# EAGLE library part MA09-2 (library con-lstb)
PIN HEADER
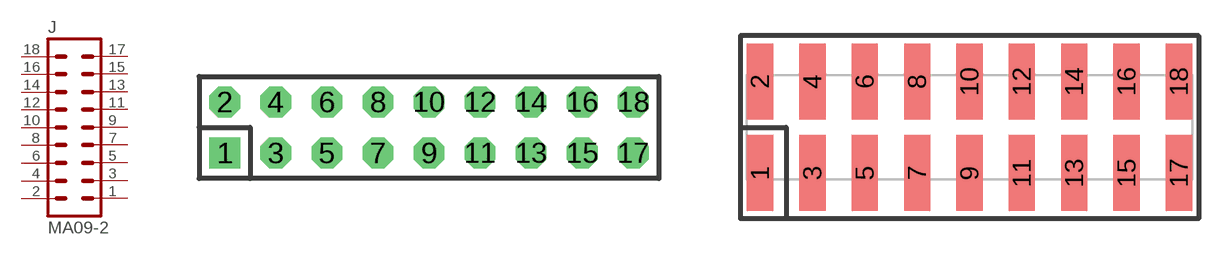
[diagram p29: symbol with the pads of MA09-2; footprints MA09-2, SMD-MA09-2]

Designator prefix J

## MA09-2  [MA09-2]
1  1  pas
2  2  pas
3  3  pas
4  4  pas
5  5  pas
6  6  pas
7  7  pas
8  8  pas
9  9  pas
10  10  pas
11  11  pas
12  12  pas
13  13  pas
14  14  pas
15  15  pas
16  16  pas
17  17  pas
18  18  pas

## MA09-2SMD  [SMD-MA09-2]
Pads as for MA09-2

## Footprint MA09-2 (pad centres in mm)
PIN HEADER
drill 1.016 square: 1 -10.16,-1.27
drill 1.016 octagon: 2 -10.16,1.27; 3 -7.62,-1.27; 4 -7.62,1.27; 5 -5.08,-1.27; 6 -5.08,1.27; 7 -2.54,-1.27; 8 -2.54,1.27; 9 0,-1.27; 10 0,1.27; 11 2.54,-1.27; 12 2.54,1.27; 13 5.08,-1.27; 14 5.08,1.27; 15 7.62,-1.27; 16 7.62,1.27; 17 10.16,-1.27; 18 10.16,1.27

## Footprint SMD-MA09-2 (pad centres in mm)
SMD Dual Row, Vertical - 0.1" Sullins, G XCXXDABN-M30 Series
smd 1.27 x 3.68: 1 -10.16,-2.223; 2 -10.16,2.223; 3 -7.62,-2.223; 4 -7.62,2.223; 5 -5.08,-2.223; 6 -5.08,2.223; 7 -2.54,-2.223; 8 -2.54,2.223; 9 0,-2.223; 10 0,2.223; 11 2.54,-2.223; 12 2.54,2.223; 13 5.08,-2.223; 14 5.08,2.223; 15 7.62,-2.223; 16 7.62,2.223; 17 10.16,-2.223; 18 10.16,2.223